# Altium footprint library xbowtie.PcbLib: 47 footprints (part 2 of 3)
Each footprint in its own frame and in the unit in brackets; x right, y up, seen from the top. Pads: shape width x height; smd on the part's side, far side on the other; paste and mask are expansions set on the pad; w line width, h text height; cw(c..) or ccw(c..) is an arc to the next point about the centre after c.
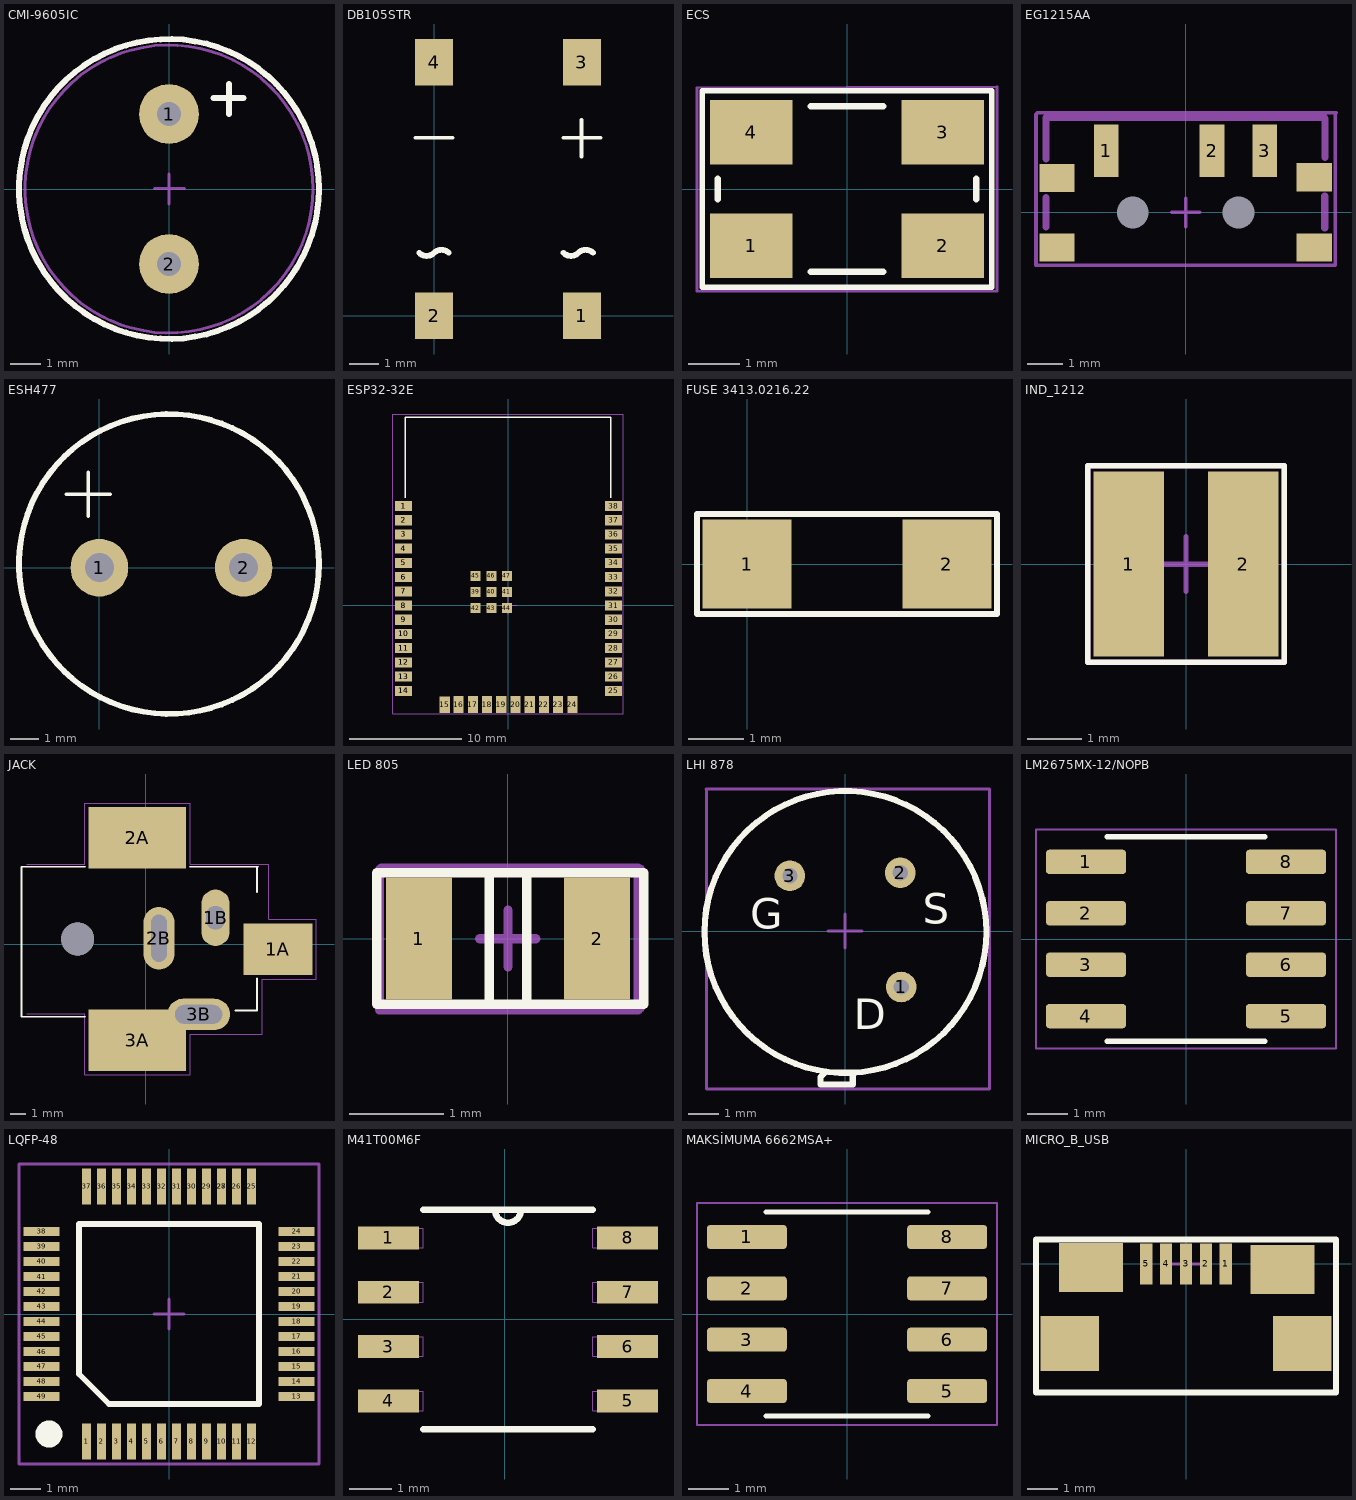
[diagram p1: the footprints below, top view; thin cyan lines are the x and y axes]

## CMI-9605IC [mm]
pads (2):
  round 2 hole 0.8 mask+0.05: 1(0,2.5) 2(0,-2.5)
Top Overlay:
  circle w0.2: c0,0 r5
  lines w0.2: 1.485,3.027 2.485,3.027 ; 2,2.5 2,3.5
Top Component Center:
  circle w0.1: c0,0 r4.8
  lines w0.1: -0.478,0.011 0.522,0.011 ; 0,-0.5 0,0.5
Top Designator:
  circle w0.1: c0,0 r4.8
  text ".Designator" at -2.346,-0.438 h1.52
3D body: height 0.15, standoff -5.35, extent -0.3,2.24 0.3,2.84
3D body: height 1.65, standoff -3.85, extent -0.272,-2.84 0.328,-2.24
3D body: height 5.2, standoff 5.15, extent -4,-4 4,4
3D body: height 5, standoff 0, extent -4.8,-4.8 4.8,4.8
3D body: height 5.2, standoff 5.15, extent -2,1.4 2,5.4

## DB105STR [mm]
pads (4):
  rect 1.3x1.6 smd paste-2539.97 mask+0.076: 1(5.08,0) 2(0,0) 3(5.08,8.7) 4(0,8.7)
Top Overlay:
  lines w0.125: -0.635,6.111 0.635,6.111 ; 4.445,6.111 5.715,6.111 ; 5.065,5.461 5.065,6.731
  lines w0.2: -0.508,2.159 ccw(c-0.254,2.413) 0,2.159 cw(c0.254,1.905) 0.508,2.159 ; 4.445,2.159 ccw(c4.699,2.413) 4.953,2.159 cw(c5.207,1.905) 5.461,2.159
3D body "DB105STR--3DModel-STEP-269445 (1).STEP": height 2.7, standoff 0, extent -1.535,-0.632 6.615,9.268

## ECS [mm]
pads (4):
  rect 1.6x1.25 smd: 1(-1.85,-1.1) 2(1.85,-1.1) 3(1.85,1.1) 4(-1.85,1.1)
Top Overlay:
  lines w0.1: -2.8,-1.9 2.8,-1.9 2.8,1.9 -2.8,1.9 -2.8,-1.9
  lines w0.127: -2.5,-0.2 -2.5,0.2 ; -0.7,-1.6 0.7,-1.6 ; -0.7,1.6 0.7,1.6 ; 2.5,-0.2 2.5,0.2
Bottom 3D Body (Mech15):
  lines w0.05: -2.9,-1.975 2.9,-1.975 2.9,1.975 -2.9,1.96 -2.9,-1.975
3D body "ECS-160-20-30B-TR.STEP": height 0.85, standoff 0, extent -2.5,-1.651 2.5,1.549

## EG1215AA [mm]
pads (9):
  round 0 hole 0.9 mask+0.05: 0(-1.5,0) 0(1.5,0)
  rect 0.7x1.5 smd mask+0.05: 1(-2.25,1.75) 2(0.75,1.75) 3(2.25,1.75)
  rect 1x0.8 smd mask+0.05: "  "(-3.65,-1) "  "(-3.65,0.981) "  "(3.65,-1) "  "(3.65,1)
Bottom 3D Body:
  lines w0.2: -3.97,-0.41 -3.97,0.42 ; -3.97,1.52 -3.97,2.69 3.94,2.69 3.96,2.67 3.96,1.56 ; 3.95,-0.44 3.95,0.46
Top Component Center:
  lines w0.1: -0.4,0 0.4,0 ; 0,-0.4 0,0.4
Top Designator:
  lines w0.1: -4.25,2.79 -4.25,-1.5 4.25,-1.5 4.25,2.81 4.27,2.83 -4.21,2.83
  text ".Designator" at -1.846,-0.238 h1.52
3D body "EG1215AA--3DModel-STEP-1.STEP": height 1.4, standoff -0.3, extent -3.85,-2.7 3.85,2.2

## ESH477 [mm]
pads (2):
  round 2 hole 1 paste-2539.97 mask+0.076: 1(0,0) 2(5,0)
Top Overlay:
  circle w0.2: c2.413,0.127 r5.2
  lines w0.125: -1.143,2.54 0.381,2.54 ; -0.381,1.778 -0.381,3.302
3D body "ESH477M050AH4AA (2).step": height 22.07, standoff -19.94, extent -2.837,-5.166 7.663,5.334

## ESP32-32E [mm]
pads (61):
  rect 1.5x0.9 smd mask+0.05: 1(-9.33,8.88) 1(-9.33,8.88) 2(-9.33,7.61) 2(-9.33,7.61) 3(-9.33,6.34) 3(-9.33,6.34) 4(-9.33,5.07) 4(-9.33,5.07) 5(-9.33,3.8) 5(-9.33,3.8) 6(-9.33,2.53) 6(-9.33,2.53) 7(-9.33,1.26) 7(-9.33,1.26) 8(-9.33,-0.01) 8(-9.33,-0.01) 9(-9.33,-1.28) 9(-9.33,-1.28) 10(-9.33,-2.55) 10(-9.33,-2.55) 11(-9.33,-3.82) 11(-9.33,-3.82) 12(-9.33,-5.09) 12(-9.33,-5.09) 13(-9.33,-6.36) 13(-9.33,-6.36) 14(-9.33,-7.63) 14(-9.33,-7.63) 25(9.43,-7.63) 26(9.43,-6.36) 27(9.43,-5.09) 28(9.43,-3.82) 29(9.43,-2.55) 30(9.43,-1.28) 31(9.43,-0.01) 32(9.43,1.26) 33(9.43,2.53) 34(9.43,3.8) 35(9.43,5.07) 36(9.43,6.34) 37(9.43,7.61) 38(9.43,8.88)
  rect 0.9x1.5 smd mask+0.05: 15(-5.65,-8.88) 16(-4.41,-8.86) 17(-3.14,-8.86) 18(-1.87,-8.86) 19(-0.6,-8.86) 20(0.67,-8.86) 21(1.94,-8.86) 22(3.21,-8.86) 23(4.48,-8.86) 24(5.75,-8.86)
  rect 0.9x0.9 smd mask+0.05: 39(-2.89,1.2) 40(-1.49,1.2) 41(-0.09,1.2) 42(-2.896,-0.233) 43(-1.49,-0.233) 44(-0.09,-0.233) 45(-2.89,2.633) 46(-1.49,2.633) 47(-0.09,2.633)
Top Overlay:
  lines w0.125: -9.2,9.6 -9.2,16.8 9.2,16.8 9.2,9.6
Top Component Center:
  lines w0.1: -0.8,0 0.8,0 ; 0,-0.8 0,0.8 ; -10.3,-9.7 -10.3,-9.675 ; -10.3,-9.7 10.3,-9.7 10.3,17.1 9.2,17.1 -10.3,17.1 -10.3,-9.675 ; -10.3,-9.7 -10.3,-9.675
Top Designator:
  lines w0.1: -10.3,-9.7 10.3,-9.7 10.3,17.1 -10.3,17.1 -10.3,-9.7
  text ".Designator" at -3.2,1.7 h1.5
3D body "ESP-32 .step": height 2.61, standoff -0.1, extent -8.9,-8.85 9,16.55

## FUSE 3413.0216.22 [mm]
pads (2):
  rect 1.6x1.6 smd mask+0.05: 1(0,0) 2(3.6,0)
Top Overlay:
  lines w0.1: -0.9,-0.9 4.5,-0.9 4.5,0.9 -0.9,0.9 -0.9,-0.9
3D body "3413.0216.22 (1).STEP": height 0.6, standoff 0, extent 0.305,-0.8 3.505,0.8

## IND_1212 [mm]
pads (2):
  rect 1.3x3.4 smd mask+0.05: 1(-1.05,0) 2(1.05,0)
Top Overlay:
  lines w0.1: -1.8,-1.8 -1.8,1.8 1.8,1.8 1.8,-1.8 -1.8,-1.8
Top Component Center:
  lines w0.1: -0.494,-0.005 0.506,-0.005 ; 0,-0.5 0,0.5 ; -1.8,-1.8 1.8,-1.8 1.8,1.8 -1.8,1.8 -1.8,-1.8
Top Designator:
  lines w0.1: -1.8,-1.8 1.8,-1.8 1.8,1.8 -1.8,1.8 -1.8,-1.8
  text ".Designator" at -1.25,-0.45 h1.5
3D body "78438335010_Download_STP_WE-MAIA-3015_rev1.stp": height 1.2, standoff 0, extent -1.5,-1.5 1.5,1.5

## JACK [mm]
pads (7):
  rect 4.4x3.3 smd: 1A(8.428,-0.3)
  oval 1.8x3.6 hole 1.2 slot 1.5 at 90 deg: 1B(4.45,1.7)
  rect 6.2x3.9 smd: 2A(-0.522,6.8) 3A(-0.522,-6.1)
  oval 2x4 hole 1 slot 3 at 90 deg: 2B(0.85,0.4)
  oval 4x2 hole 1.2 slot 3 at 0 deg: 3B(3.378,-4.45)
  round 2.1 hole 2.1 unplated: ""(-4.322,0.35)
Top Overlay:
  lines w0.127: -3.872,-4.6 -7.9,-4.6 -7.9,4.95 -3.872,4.95 ; 2.828,4.95 7.15,4.95 ; 5.728,-4.2 7.1,-4.2 7.1,-2.15 ; 7.1,3.35 7.1,4.95
Bottom 3D Body (Mech15):
  lines w0.05: -7.572,-4.4 -3.872,-4.4 -3.872,-8.3 2.828,-8.3 2.828,-5.7 7.428,-5.7 7.428,-2.2 10.878,-2.2 10.878,1.6 7.828,1.6 7.828,5.1 2.828,5.1 2.828,9 -3.872,9 -3.872,5.1 -7.572,5.1
3D body "DC Power Jack 5.5mm x 2.1mm.STEP": height 10.38, standoff -4, extent -7.78,-4.93 6.84,4.84

## LED 805 [mm]
pads (2):
  rect 0.7x1.3 smd mask+0.05: 1(-0.95,0) 2(0.95,0)
Top Overlay:
  lines w0.1: -0.2,-0.7 -0.2,0.7 ; 0.2,-0.7 0.2,0.7 ; -1.4,-0.7 -1.4,0.7 1.45,0.7 1.45,0.35 1.45,-0.35 1.45,-0.7 -1.4,-0.7
Top Component Center:
  lines w0.1: -0.303,-0.002 0.297,-0.002 ; 0,-0.3 0,0.3 ; -1.37,-0.76 -1.37,0.73 -1.35,0.75 1.39,0.75 1.39,-0.76 -1.37,-0.76
Top Designator:
  lines w0.1: -1.37,0.73 -1.37,-0.74 1.41,-0.74 1.41,0.74 -1.36,0.74
  text ".Designator" at -0.85,-0.307 h0.7
3D body "LH R974-LP-1-0-20-R18.STEP": height 0.8, standoff 0, extent -0.9,-0.65 1.1,0.65

## LHI 878 [mm]
pads (3):
  round 1 hole 0.5: 1(1.83,-1.825) 2(1.8,1.9) 3(-1.8,1.8)
Top Overlay:
  circle w0.2: c0.01,-0.03 r4.6
  lines w0.2: -0.63,-4.59 -0.8,-4.76 -0.8,-4.78 -0.8,-5 -0.79,-5.01 0.25,-5.01 0.25,-4.63
  text "G" at -3.1,0.07 h1
  text "S" at 2.53,0.24 h1
  text "D" at 0.29,-3.2 h1
Top Component Center:
  lines w0.1: -0.55,0 0.55,0 ; 0,-0.55 0,0.55
Top Designator:
  lines w0.1: -4.535,4.635 4.715,4.635 4.715,-5.155 -4.525,-5.155 -4.525,4.625
  text ".Designator" at -1.78,-0.677 h1
3D body "User Library-LHI878.STEP": height 4.6, standoff -2.4, extent -4.564,-5.029 4.636,4.6

## LM2675MX-12/NOPB [mm]
pads (8):
  rrect25% 1.97x0.6 smd: 1(-2.47,1.905) 2(-2.47,0.635) 3(-2.47,-0.635) 4(-2.47,-1.905) 5(2.47,-1.905) 6(2.47,-0.635) 7(2.47,0.635) 8(2.47,1.905)
Top Overlay:
  lines w0.127: -1.95,-2.525 1.95,-2.525 ; -1.95,2.525 1.95,2.525
Bottom 3D Body (Mech15):
  lines w0.05: -3.705,-2.702 -3.705,2.702 3.705,2.702 3.705,-2.702 -3.705,-2.702
3D body "LM2675MX-12_NOPB.STEP": height 1.83, standoff 0.08, extent -3,-2.45 3,2.45

## LQFP-48 [mm] "7X7 MM"
pads (49):
  rect 0.3x1.2 smd mask+0.05: 1(-2.75,-4.25) 2(-2.25,-4.25) 3(-1.75,-4.25) 4(-1.25,-4.25) 5(-0.75,-4.25) 6(-0.25,-4.25) 7(0.25,-4.25) 8(0.75,-4.25) 9(1.25,-4.25) 10(1.75,-4.25) 11(2.25,-4.25) 12(2.75,-4.25) 25(2.75,4.25) 26(2.25,4.25) 27(1.75,4.25) 28(1.75,4.25) 29(1.25,4.25) 30(0.75,4.25) 31(0.25,4.25) 32(-0.25,4.25) 33(-0.75,4.25) 34(-1.25,4.25) 35(-1.75,4.25) 36(-2.25,4.25) 37(-2.75,4.25)
  rect 1.2x0.3 smd mask+0.05: 13(4.25,-2.75) 14(4.25,-2.25) 15(4.25,-1.75) 16(4.25,-1.25) 17(4.25,-0.75) 18(4.25,-0.25) 19(4.25,0.25) 20(4.25,0.75) 21(4.25,1.25) 22(4.25,1.75) 23(4.25,2.25) 24(4.25,2.75) 38(-4.25,2.75) 39(-4.25,2.25) 40(-4.25,1.75) 41(-4.25,1.25) 42(-4.25,0.75) 43(-4.25,0.25) 44(-4.25,-0.25) 45(-4.25,-0.75) 46(-4.25,-1.25) 47(-4.25,-1.75) 48(-4.25,-2.25) 49(-4.25,-2.75)
Top Overlay:
  circle w0.5: c-4,-4 r0.2
  lines w0.2: -3,-2 -2,-3 3,-3 3,3 -3,3 -3,-2
Top Component Center:
  lines w0.1: -0.5,0 0.5,0 ; 0,-0.5 0,0.5 ; -5,-5 5,-5 ; -5,-5 -5,5 ; -5,-5 5,-5 ; -5,-5 -5,5 ; -5,5 5,5 ; -5,5 5,5 ; 5,-5 5,5 ; 5,-5 5,5
  text ".Designator" at -1.618,-0.508 h1.52
3D body "STM32F103C6T6A.STEP": height 1.59, standoff -0.01, extent -4.5,-4.5 4.5,4.5

## M41T00M6F [mil]
pads (8):
  rect 56x21 smd: 1(-107.13,75) 2(-107.13,25) 3(-107.13,-25) 4(-107.13,-75) 5(112.87,-75) 6(112.87,-25) 7(112.87,25) 8(112.87,75)
Top Overlay:
  lines w6: -75.13,-101 80.87,-101 ; -75.13,101 -9.13,101 ; 80.87,101 14.87,101 ; -9.13,101 ccw(c2.87,101) 14.87,101 ; -9.13,101 14.87,101
Top 3D Body:
  lines w0: -75.13,-101 80.87,-101 ; -75.13,101 -9.13,101 ; 80.87,101 14.87,101 ; -9.13,101 ccw(c2.87,101) 14.87,101 ; -9.13,101 14.87,101 ; -121.13,-84 -75.13,-84 -75.13,-66 -121.13,-66 -121.13,-84 ; -121.13,-34 -75.13,-34 -75.13,-16 -121.13,-16 -121.13,-34 ; -121.13,16 -75.13,16 -75.13,34 -121.13,34 -121.13,16 ; -121.13,66 -75.13,66 -75.13,84 -121.13,84 -121.13,66 ; 80.87,-84 126.87,-84 126.87,-66 80.87,-66 80.87,-84 ; 80.87,-34 126.87,-34 126.87,-16 80.87,-16 80.87,-34 ; 80.87,16 126.87,16 126.87,34 80.87,34 80.87,16 ; 80.87,66 126.87,66 126.87,84 80.87,84 80.87,66
3D body "M41T00M6F.STEP": height 68.9, standoff 0, extent -115.24,-96.46 120.98,96.46

## MAKSİMUMA 6662MSA+ [mm]
pads (8):
  rrect25% 1.97x0.59 smd: 1(-2.475,1.905) 2(-2.475,0.635) 3(-2.475,-0.635) 4(-2.475,-1.905) 5(2.475,-1.905) 6(2.475,-0.635) 7(2.475,0.635) 8(2.475,1.905)
Top Overlay:
  lines w0.127: -2,-2.52 2,-2.52 ; -2,2.52 2,2.52
Bottom 3D Body (Mech15):
  lines w0.05: -3.71,-2.75 3.71,-2.75 3.71,2.75 -3.71,2.75 -3.71,-2.75
3D body "MAX6662MSA+.STEP": height 1.75, standoff 0, extent -2.873,-2.45 3.127,2.45

## MICRO_B_USB [mm]
pads (10):
  rect 0.4x1.35 smd mask+0.05: 1(1.3,0) 2(0.65,0) 3(0,0) 4(-0.65,0) 5(-1.3,0)
  rect 1.9x1.8 smd mask+0.05: ""(-3.8,-2.6) ""(3.8,-2.6)
  rect 2.1x1.6 smd mask+0.05: ""(-3.1,-0.122) ""(-3.1,-0.122) ""(3.151,-0.175)
Top Overlay:
  lines w0.2: -4.9,-4.2 -4.9,0.8 4.9,0.8 4.9,-0.375 4.9,-2.925 4.9,-4.2 -4.9,-4.2
Top Component Center:
  lines w0.1: -0.583,-0.004 0.616,-0.004 ; 0,-0.6 0,0.6 ; -4.9,-4.2 4.9,-4.2 4.9,0.8 -4.9,0.8 -4.9,-4.2
Top Designator:
  lines w0.1: -4.9,-4.2 -4.9,0.8 4.9,0.8 4.9,-4.2 -4.9,-4.2
  text ".Designator" at -2.9,-2.1 h1.5
3D body "10118192-0001LF--3DModel-STEP-269445 (1).STEP": height 2.56, standoff -0.23, extent -3.955,-5.2 3.955,0.466